# Altium integrated library Gennum Converter Digital to Analog.IntLib: 3 symbols
Pins are listed as number, name and electrical type; pins without a type are passive.

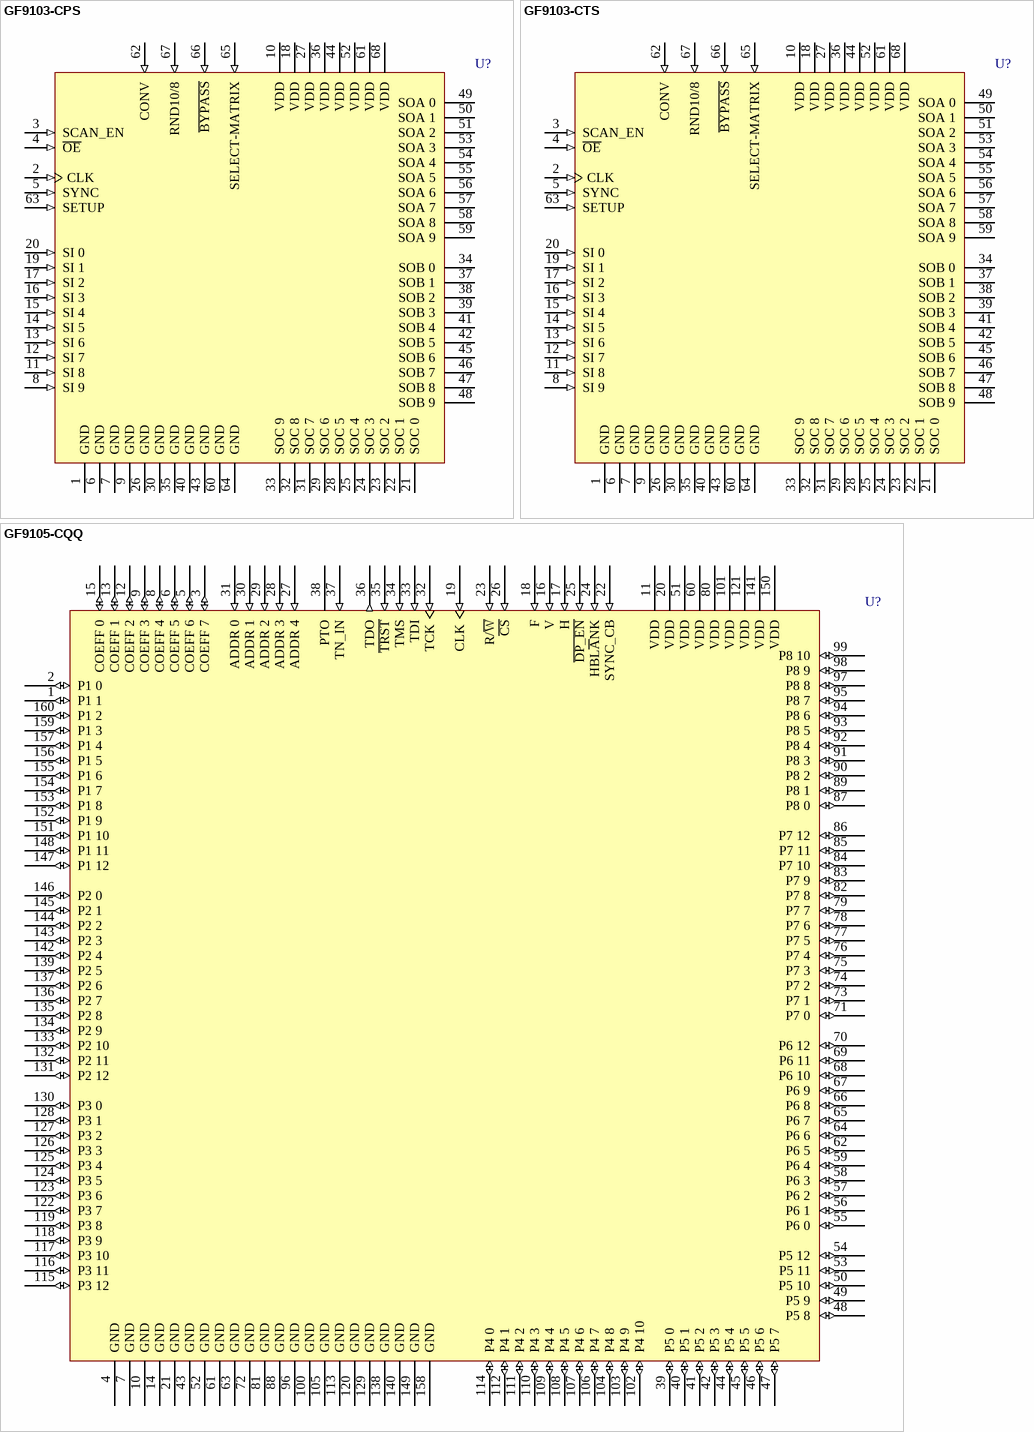
[diagram p0: symbols GF9103-CPS to GF9105-CQQ]

## GF9103-CPS
designator U?
Over-Sampling Color Space Converter; Published: 8-Jun-2000; LatestRevisionDate: 13-Apr-2006; LatestRevisionNote: IPC-7351 Footprint Added.; DatasheetVersion: Feb-1996; PackageReference: PLCC68; Publisher: Altium Limited; PackageDescription: 68-Pin Leaded Chip Carrier 1.27 mm Pitch; Code_IPC: PLCC-68; ComponentLink1Description: Manufacturer Link; ComponentLink1URL: http://www.gennum.com/index.html
footprint PLCC68_N (Leaded Chip Carrier, 68-Leads, Body 24x24mm, Pitch 1.27mm, IPC Medium Density)
footprint PLCC68_L (Leaded Chip Carrier, 68-Leads, Body 24x24mm, Pitch 1.27mm, IPC High Density)
footprint PLCC68_M (Leaded Chip Carrier, 68-Leads, Body 24x24mm, Pitch 1.27mm, IPC Low Density)
3D model GF9103-PLCC68 (68-Pin Leaded Chip Carrier 1.27 mm Pitch)
pins: 1 GND (power), 2 CLK (in), 3 SCAN_EN (in), 4 ~{OE} (in), 5 SYNC (in), 6 GND (power), 7 GND (power), 8 SI 9 (in), 9 GND (power), 10 VDD (power), 11 SI 8 (in), 12 SI 7 (in), 13 SI 6 (in), 14 SI 5 (in), 15 SI 4 (in), 16 SI 3 (in), 17 SI 2 (in), 18 VDD (power), 19 SI 1 (in), 20 SI 0 (in), 21 SOC 0 (hiz), 22 SOC 1 (hiz), 23 SOC 2 (hiz), 24 SOC 3 (hiz), 25 SOC 4 (hiz), 26 GND (power), 27 VDD (power), 28 SOC 5 (hiz), 29 SOC 6 (hiz), 30 GND (power), 31 SOC 7 (hiz), 32 SOC 8 (hiz), 33 SOC 9 (hiz), 34 SOB 0 (hiz), 35 GND (power), 36 VDD (power), 37 SOB 1 (hiz), 38 SOB 2 (hiz), 39 SOB 3 (hiz), 40 GND (power), 41 SOB 4 (hiz), 42 SOB 5 (hiz), 43 GND (power), 44 VDD (power), 45 SOB 6 (hiz), 46 SOB 7 (hiz), 47 SOB 8 (hiz), 48 SOB 9 (hiz), 49 SOA 0 (hiz), 50 SOA 1 (hiz), 51 SOA 2 (hiz), 52 VDD (power), 53 SOA 3 (hiz), 54 SOA 4 (hiz), 55 SOA 5 (hiz), 56 SOA 6 (hiz), 57 SOA 7 (hiz), 58 SOA 8 (hiz), 59 SOA 9 (hiz), 60 GND (power), 61 VDD (power), 62 CONV (in), 63 SETUP (in), 64 GND (power), 65 SELECT-MATRIX (in), 66 ~{BYPASS} (in), 67 RND10/8 (in), 68 VDD (power)

## GF9103-CTS
designator U?
Over-Sampling Color Space Converter; Published: 8-Jun-2000; LatestRevisionDate: 13-Apr-2006; LatestRevisionNote: IPC-7351 Footprint Added.; DatasheetVersion: Feb-1996; PackageReference: PLCC68T; Publisher: Altium Limited; PackageDescription: 68-Pin Leaded Chip Carrier 1.27 mm Pitch; Code_IPC: PLCC-68; ComponentLink1Description: Manufacturer Link; ComponentLink1URL: http://www.gennum.com/index.html
footprint PLCC68T_N (Leaded Chip Carrier, 68-Leads, Body 24x24mm, Pitch 1.27mm, IPC Medium Density)
footprint PLCC68T_L (Leaded Chip Carrier, 68-Leads, Body 24x24mm, Pitch 1.27mm, IPC High Density)
footprint PLCC68T_M (Leaded Chip Carrier, 68-Leads, Body 24x24mm, Pitch 1.27mm, IPC Low Density)
3D model GF9103-PLCC68 (68-Pin Leaded Chip Carrier 1.27 mm Pitch)
pins: 1 GND (power), 2 CLK (in), 3 SCAN_EN (in), 4 ~{OE} (in), 5 SYNC (in), 6 GND (power), 7 GND (power), 8 SI 9 (in), 9 GND (power), 10 VDD (power), 11 SI 8 (in), 12 SI 7 (in), 13 SI 6 (in), 14 SI 5 (in), 15 SI 4 (in), 16 SI 3 (in), 17 SI 2 (in), 18 VDD (power), 19 SI 1 (in), 20 SI 0 (in), 21 SOC 0 (hiz), 22 SOC 1 (hiz), 23 SOC 2 (hiz), 24 SOC 3 (hiz), 25 SOC 4 (hiz), 26 GND (power), 27 VDD (power), 28 SOC 5 (hiz), 29 SOC 6 (hiz), 30 GND (power), 31 SOC 7 (hiz), 32 SOC 8 (hiz), 33 SOC 9 (hiz), 34 SOB 0 (hiz), 35 GND (power), 36 VDD (power), 37 SOB 1 (hiz), 38 SOB 2 (hiz), 39 SOB 3 (hiz), 40 GND (power), 41 SOB 4 (hiz), 42 SOB 5 (hiz), 43 GND (power), 44 VDD (power), 45 SOB 6 (hiz), 46 SOB 7 (hiz), 47 SOB 8 (hiz), 48 SOB 9 (hiz), 49 SOA 0 (hiz), 50 SOA 1 (hiz), 51 SOA 2 (hiz), 52 VDD (power), 53 SOA 3 (hiz), 54 SOA 4 (hiz), 55 SOA 5 (hiz), 56 SOA 6 (hiz), 57 SOA 7 (hiz), 58 SOA 8 (hiz), 59 SOA 9 (hiz), 60 GND (power), 61 VDD (power), 62 CONV (in), 63 SETUP (in), 64 GND (power), 65 SELECT-MATRIX (in), 66 ~{BYPASS} (in), 67 RND10/8 (in), 68 VDD (power)

## GF9105-CQQ
designator U?
Component Digital Transcoder; Note: Do not connect pin 38.; Published: 8-Jun-2000; LatestRevisionDate: 13-Apr-2006; LatestRevisionNote: IPC-7351 Footprint Added.; DatasheetVersion: May-1999; PackageReference: MQFP160; Publisher: Altium Limited; PackageDescription: 160-Pin Quad Flat Pack 0.65 mm Pitch; Code_IPC: QFP65P3120X3120-160; ComponentLink1Description: Manufacturer Link; ComponentLink1URL: http://www.gennum.com/index.html
footprint MQFP160_N (QFP, 160-Leads, Body 28 x 28mm, Pitch 0.65mm, IPC Medium Density)
footprint MQFP160_L (QFP, 160-Leads, Body 28 x 28mm, Pitch 0.65mm, IPC High Density)
footprint MQFP160_M (QFP, 160-Leads, Body 28 x 28mm, Pitch 0.65mm, IPC Low Density)
3D model GF9105-MQFP160 (160-Pin Quad Flat Pack 0.65 mm Pitch)
pins: 1 P1 1 (io), 2 P1 0 (io), 3 COEFF 7 (io), 4 GND (power), 5 COEFF 6 (io), 6 COEFF 5 (io), 7 GND (power), 8 COEFF 4 (io), 9 COEFF 3 (io), 10 GND (power), 11 VDD (power), 12 COEFF 2 (io), 13 COEFF 1 (io), 14 GND (power), 15 COEFF 0 (io), 16 V (in), 17 H (in), 18 F (in), 19 CLK (in), 20 VDD (power), 21 GND (power), 22 SYNC_CB (in), 23 R/~{W} (in), 24 HBL~{A}NK (in), 25 ~{DP_EN} (in), 26 ~{CS} (in), 27 ADDR 4 (in), 28 ADDR 3 (in), 29 ADDR 2 (in), 30 ADDR 1 (in), 31 ADDR 0 (in), 32 TCK (in), 33 TDI (in), 34 TMS (in), 35 ~{TRST} (in), 36 TDO (out), 37 TN_IN (in), 38 PTO, 39 P5 0 (io), 40 P5 1 (io), 41 P5 2 (io), 42 P5 3 (io), 43 GND (power), 44 P5 4 (io), 45 P5 5 (io), 46 P5 6 (io), 47 P5 7 (io), 48 P5 8 (io), 49 P5 9 (io), 50 P5 10 (io), 51 VDD (power), 52 GND (power), 53 P5 11 (io), 54 P5 12 (io), 55 P6 0 (io), 56 P6 1 (io), 57 P6 2 (io), 58 P6 3 (io), 59 P6 4 (io), 60 VDD (power), 61 GND (power), 62 P6 5 (io), 63 GND (power), 64 P6 6 (io), 65 P6 7 (io), 66 P6 8 (io), 67 P6 9 (io), 68 P6 10 (io), 69 P6 11 (io), 70 P6 12 (io), 71 P7 0 (io), 72 GND (power), 73 P7 1 (io), 74 P7 2 (io), 75 P7 3 (io), 76 P7 4 (io), 77 P7 5 (io), 78 P7 6 (io), 79 P7 7 (io), 80 VDD (power), 81 GND (power), 82 P7 8 (io), 83 P7 9 (io), 84 P7 10 (io), 85 P7 11 (io), 86 P7 12 (io), 87 P8 0 (io), 88 GND (power), 89 P8 1 (io), 90 P8 2 (io), 91 P8 3 (io), 92 P8 4 (io), 93 P8 5 (io), 94 P8 6 (io), 95 P8 7 (io), 96 GND (power), 97 P8 8 (io), 98 P8 9 (io), 99 P8 10 (io), 100 GND (power), 101 VDD (power), 102 P4 10 (io), 103 P4 9 (io), 104 P4 8 (io), 105 GND (power), 106 P4 7 (io), 107 P4 6 (io), 108 P4 5 (io), 109 P4 4 (io), 110 P4 3 (io), 111 P4 2 (io), 112 P4 1 (io), 113 GND (power), 114 P4 0 (io), 115 P3 12 (io), 116 P3 11 (io), 117 P3 10 (io), 118 P3 9 (io), 119 P3 8 (io), 120 GND (power), 121 VDD (power), 122 P3 7 (io), 123 P3 6 (io), 124 P3 5 (io), 125 P3 4 (io), 126 P3 3 (io), 127 P3 2 (io), 128 P3 1 (io), 129 GND (power), 130 P3 0 (io), 131 P2 12 (io), 132 P2 11 (io), 133 P2 10 (io), 134 P2 9 (io), 135 P2 8 (io), 136 P2 7 (io), 137 P2 6 (io), 138 GND (power), 139 P2 5 (io), 140 GND (power), 141 VDD (power), 142 P2 4 (io), 143 P2 3 (io), 144 P2 2 (io), 145 P2 1 (io), 146 P2 0 (io), 147 P1 12 (io), 148 P1 11 (io), 149 GND (power), 150 VDD (power), 151 P1 10 (io), 152 P1 9 (io), 153 P1 8 (io), 154 P1 7 (io), 155 P1 6 (io), 156 P1 5 (io), 157 P1 4 (io), 158 GND (power), 159 P1 3 (io), 160 P1 2 (io)